# EAGLE library part MC34063ADR (library SGC)
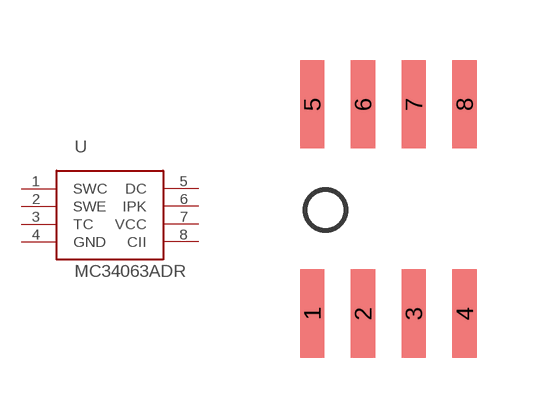
[diagram p0: symbol with the pads of MC34063ADR_SOIC8; footprint MC34063ADR_SOIC8]

Designator prefix -

## MC34063ADR  [MC34063ADR_SOIC8]
1  SWC
2  SWE
3  TC
4  GND
5  DC
6  IPK
7  VCC
8  CII

## Footprint MC34063ADR_SOIC8 (pad centres in mm)
smd 0.61 x 2.21: 1 -1.905,-2.616; 2 -0.635,-2.616; 3 0.635,-2.616; 4 1.905,-2.616; 5 -1.905,2.616; 6 -0.635,2.616; 7 0.635,2.616; 8 1.905,2.616